# Altium schematic symbol library RS-32.SchLib: 1 symbol
Pins are listed as number, name and electrical type; pins without a type are passive.

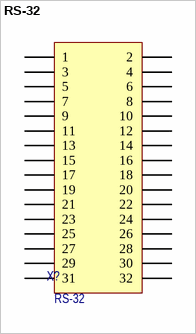
[diagram p0: symbol RS-32]

## RS-32
designator X?  (value not drawn)
RS-32, 32-pin, instrument plug of threaded connection.; Назначение: Connector for output of contacts to the front panel; Потребление, Вт: 0,0; Наименование: РС32
footprint RS-32
pins: 1, 2, 3, 4, 5, 6, 7, 8, 9, 10, 11, 12, 13, 14, 15, 16, 17, 18, 19, 20, 21, 22, 23, 24, 25, 26, 27, 28, 29, 30, 31, 32